# Altium schematic symbol library CPF0402B120KE.SchLib: 1 symbol
Pins are listed as number, name and electrical type; pins without a type are passive.

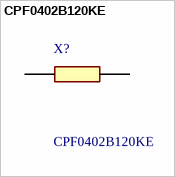
[diagram p0: symbol CPF0402B120KE]

## CPF0402B120KE
designator X?
TE Connectivity CPF Series Precision Thin Film Surface Mount Resistor 0402 Case 120k +/-0.1% 0.063W +/-25ppm/C; Geometry.Height: 0.35mm; Manufacturer_Name: TE Connectivity; Manufacturer_Part_Number: CPF0402B120KE; Mouser Part Number: 279-CPF0402B120KE; Mouser Price/Stock: https://www.mouser.co.uk/ProductDetail/TE-Connectivity-Holsworthy/CPF0402B120KE?qs=gt1LBUVyoHkYutzwN9BOaQ%3D%3D; Arrow Part Number: *; Arrow Price/Stock: *; Datasheet Link: http://www.farnell.com/datasheets/1786775.pdf
footprint RESC1005X35N
pins: 1, 2